# EAGLE library part 15EDGRC-3.81-21P (library con-degson)
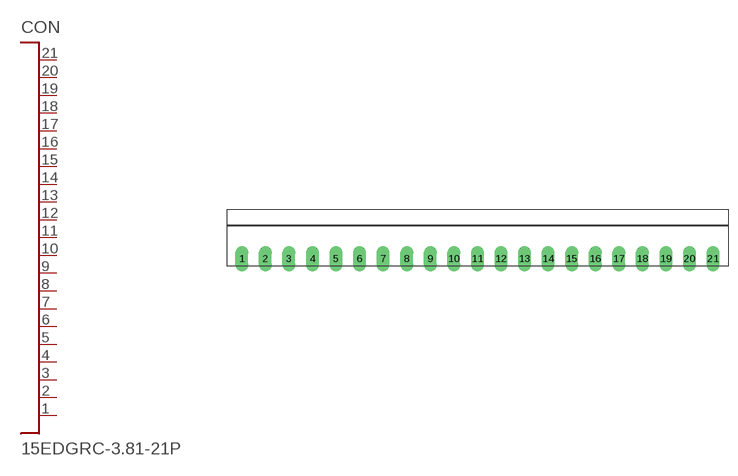
[diagram p38: symbol with the pads of 15EDGRC-3.81-21P; footprint 15EDGRC-3.81-21P]

Designator prefix CON

## 15EDGRC-3.81-21P  [15EDGRC-3.81-21P]
1  P$1
2  P$2
3  P$3
4  P$4
5  P$5
6  P$6
7  P$7
8  P$8
9  P$9
10  P$10
11  P$11
12  P$12
13  P$13
14  P$14
15  P$15
16  P$16
17  P$17
18  P$18
19  P$19
20  P$20
21  P$21

## Footprint 15EDGRC-3.81-21P (pad centres in mm)
drill 1.4 long: 1 -38.1,0; 2 -34.29,0; 3 -30.48,0; 4 -26.67,0; 5 -22.86,0; 6 -19.05,0; 7 -15.24,0; 8 -11.43,0; 9 -7.62,0; 10 -3.81,0; 11 0,0; 12 3.81,0; 13 7.62,0; 14 11.43,0; 15 15.24,0; 16 19.05,0; 17 22.86,0; 18 26.67,0; 19 30.48,0; 20 34.29,0; 21 38.1,0